# Altium schematic symbol library JFET_P_SDG.Schlib: 1 symbol
Pins are listed as number, name and electrical type; pins without a type are passive.

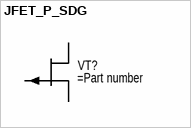
[diagram p0: symbol JFET_P_SDG]

## JFET_P_SDG
designator VT?
pins: 1 D, 2 S, 3 G